# Altium schematic symbol library 1711026.SchLib: 1 symbol
Pins are listed as number, name and electrical type; pins without a type are passive.

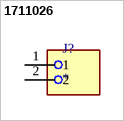
[diagram p0: symbol 1711026]

## 1711026
designator J?
MP: 1711026; Package: None; Price: None; Value: *; Availability: Unavailable
footprint PHOENIX_1711026
pins: 1, 2